# EAGLE library part MX66L51235FZ2I-10G (library EF_Lib)
NOR Flash Memory (64M)
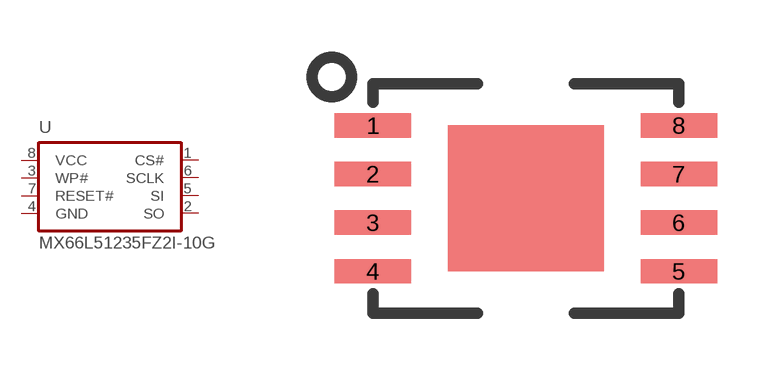
[diagram p2: symbol with the pads of WSON8L; footprint WSON8L]

Designator prefix -

## MX66L51235FZ2I-10G  [WSON8L]
1  CS#
2  SO
3  WP#
4  GND
5  SI
6  SCLK
7  RESET#
8  VCC

## Footprint WSON8L (pad centres in mm)
smd 2 x 0.635: 1 -4,0; 2 -4,-1.27; 3 -4,-2.54; 4 -4,-3.81; 5 4,-3.81; 6 4,-2.54; 7 4,-1.27; 8 4,0